# Altium schematic symbol library sch_library.SchLib: 55 symbols (part 2 of 2)
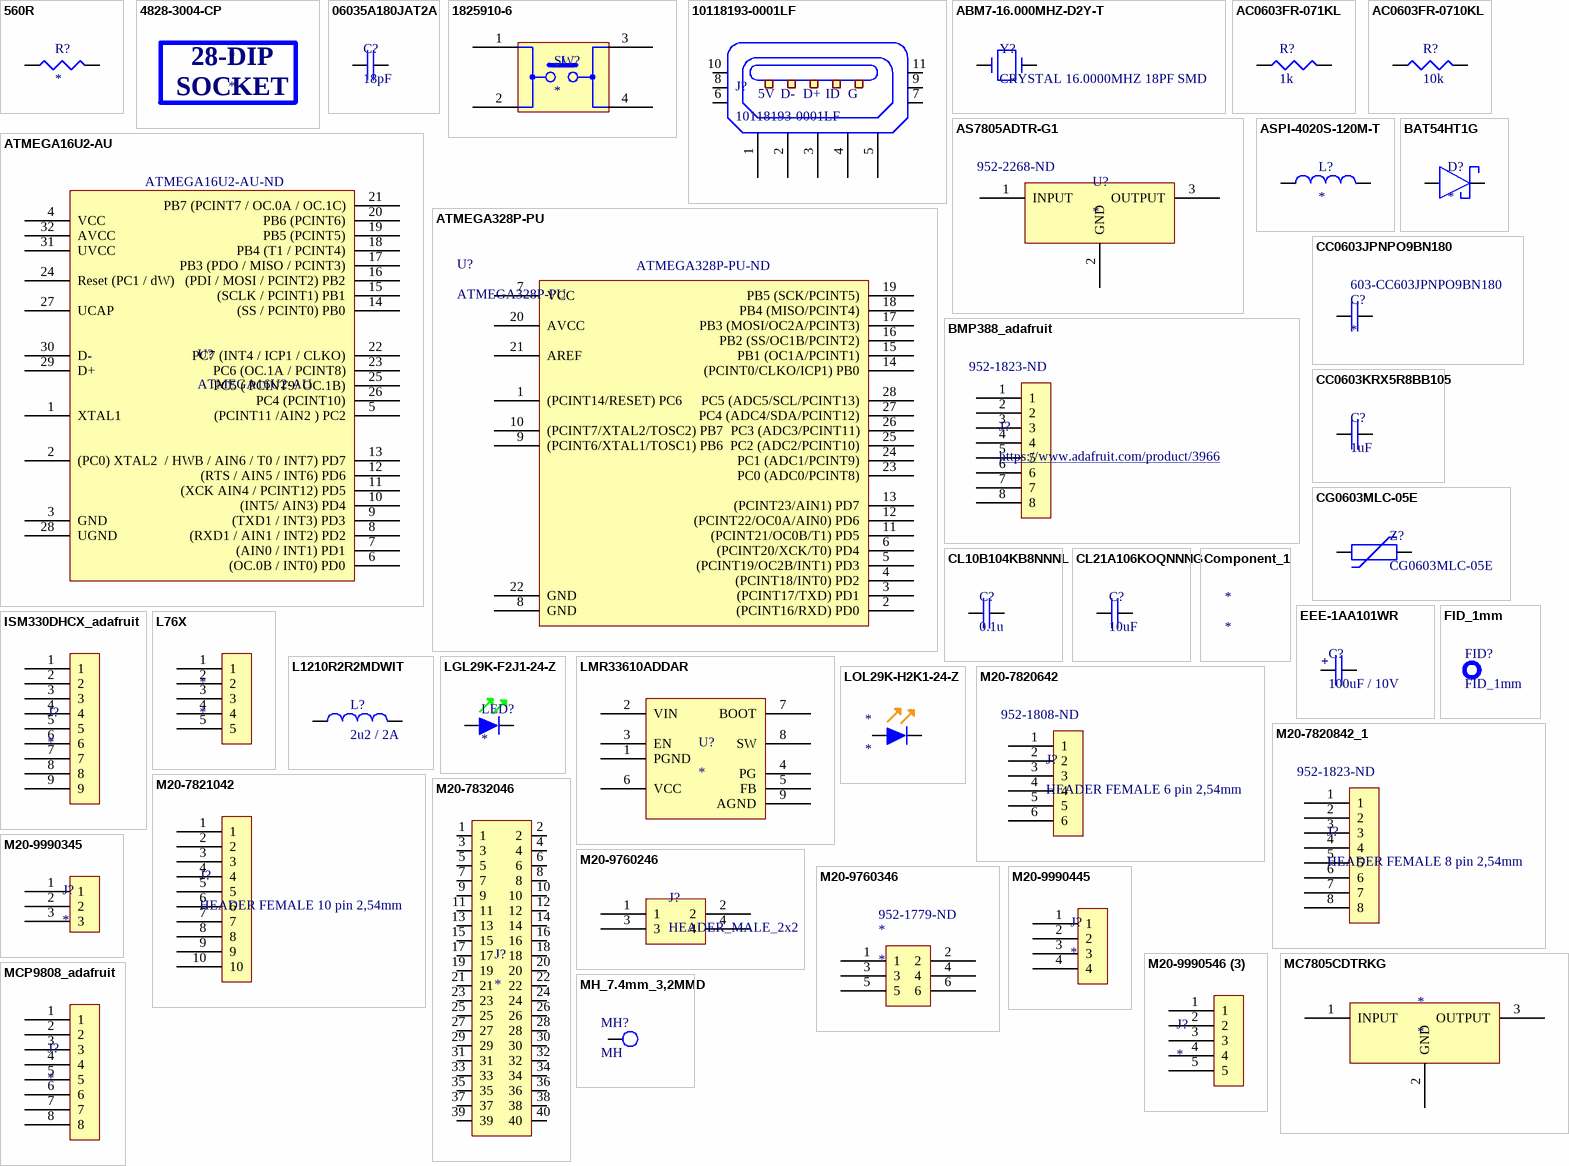
[diagram p2: symbols 560R to MH_7.4mm_3,2MMD]

## LOL29K-H2K1-24-Z
designator *
OSRAM - LO L29K-H2K1-24-Z - SMARTLED 0603 ORANGE; Manufacturer: Osram Opto; Lens Color: White; Forward Current: 20mA; Forward Voltage: 2.2V; Luminous Intensity: 9mcd; Viewing Angle: 160°; Test Current: 2mA; Lens Style: Flat,Diffused,Colorless,Rectangular; Dominant Wavelength: 606nm; Luminous Flux: 0.025lm; Number of Elements: 1; Reverse Voltage: 12V; Lens Transparency: Diffused; Lens Size: 0.8mm; Supplier 1: Digi-Key; Manufacturer Part Number: LOL29K-H2K1-24-Z; RoHS: Yes; Category: Uncategorized; Mount: Surface Mount; Case/Package: 0603; Number of Pins: 2; Color: Orange; Case Code (Metric): 1608; Case Code (Imperial): 0603; Min Operating Temperature: -40°C; Max Operating Temperature: 100°C; Packaging: Tape and Reel; Number of LEDs: 1; Illumination Color: Orange; Package Quantity: 5000; Length: 1.3mm; Width: 0.8mm; Height: 0.65mm; Depth: 0.8mm; Radiation Hardening: No; ComponentLink1URL: https://datasheet.ciiva.com/2112/00077105-0-2112904.pdf?src-supplier=Digi-Key; ComponentLink1Description: https://datasheet.ciiva.com/2112/00077105-0-2112904.pdf?src-supplier=Digi-Key; ComponentLink2URL: https://datasheet.ciiva.com/2112/00077105-0-2112905.pdf?src-supplier=Digi-Key; ComponentLink2Description: https://datasheet.ciiva.com/2112/00077105-0-2112905.pdf?src-supplier=Digi-Key; ComponentLink3URL: https://datasheet.ciiva.com/2112/00077105-0-2112906.pdf?src-supplier=Digi-Key; ComponentLink3Description: https://datasheet.ciiva.com/2112/00077105-0-2112906.pdf?src-supplier=Digi-Key; ComponentLink4URL: https://datasheet.ciiva.com/15198/getdatasheetpartid-693885-15198412.pdf?src-supplier=Verical; ComponentLink4Description: https://datasheet.ciiva.com/15198/getdatasheetpartid-693885-15198412.pdf?src-supplier=Verical; Supplier Part Number 1: 475-2740-2-ND
footprint LED_0603
pins: 1, 2

## M20-7820642
designator J?, comment HEADER FEMALE 6 pin 2,54mm  Supplier Part Number 1: 952-1808-ND
Conn Socket Strip SKT 6 POS 2.54mm Solder ST Thru-Hole Tube; Manufacturer: Harwin; Manufacturer Part Number: M20-7820642; Number of Contacts: 6; Max Current Rating: 3A; Contact Resistance: 20mR; Connector Type: Receptacle,Socket; Supplier 1: Digi-Key; RoHS: Yes; Category: Headers and Wire Housings; Stock 1: 1395; Pricing 1: 1=1.04000, 10=0.91300, 100=0.78760, 500=0.64440, 1000=0.57280, 5000=0.50120, 10000=0.47614 (USD); Mount: Through Hole; Case/Package: SIL; Contact Plating: Gold,Tin; Color: Black; Contact Material: Bronze; Weight: 0.019048oz; Housing Color: Black; Housing Material: Nylon; Min Operating Temperature: -40°C; Max Operating Temperature: 105°C; Number of Rows: 1; Termination: Solder; Gender: Female; Contact Gender: Female; Package Quantity: 38; Packaging: Rail/Tube; Orientation: Straight; Number of Positions: 6; Length: 15.64mm; Pitch: 2.54mm; Depth: 2.5mm; ComponentLink1URL: http://www.mouser.com/ds/2/181/Harwin_Product_Catalog_page_197-1134272.pdf?src-supplier=Mouser; ComponentLink1Description: http://www.mouser.com/ds/2/181/Harwin_Product_Catalog_page_197-1134272.pdf?src-supplier=Mouser; ComponentLink2URL: http://components.arrow.com/part/dataview/0323_00725895?src-supplier=Arrow+Europe; ComponentLink2Description: http://components.arrow.com/part/dataview/0323_00725895?src-supplier=Arrow+Europe; ComponentLink3URL: https://cdn.harwin.com/pdfs/M20-782.pdf?src-supplier=Digi-Key; ComponentLink3Description: https://cdn.harwin.com/pdfs/M20-782.pdf?src-supplier=Digi-Key; ComponentLink4URL: http://www.harwin.com/include/downloads/pdfs/60PAGE140.PDF?src-supplier=Avnet; ComponentLink4Description: http://www.harwin.com/include/downloads/pdfs/60PAGE140.PDF?src-supplier=Avnet
footprint HEADER_FEMALE_6PIN_2.54mm
pins: 1, 2, 3, 4, 5, 6

## M20-7820842_1
designator J?, comment HEADER FEMALE 8 pin 2,54mm  Supplier Part Number 1: 952-1823-ND
2.54mm (0.1") Pitch SIL Vertical PC Tail Socket Assembly, selective gold + tin, 8 contacts; Manufacturer: Harwin; Manufacturer Part Number: M20-7820842; Number of Contacts: 8; Connector Type: Receptacle,Socket; Max Current Rating: 3A; Contact Resistance: 20mR; Supplier 1: Digi-Key; RoHS: Yes; Category: Headers and Wire Housings; Stock 1: 384; Pricing 1: 1=1.17000, 10=1.03000, 100=0.88880, 500=0.72720, 1000=0.64640, 5000=0.56560, 10000=0.53732 (USD); Mount: Through Hole; Case/Package: SIL; Contact Plating: Tin,Gold; Weight: 0.025397oz; Housing Color: Black; Color: Black; Contact Material: Bronze; Housing Material: Polyamide; Min Operating Temperature: -40°C; Max Operating Temperature: 105°C; Termination: Solder; Number of Rows: 1; Orientation: Straight; Number of Positions: 8; Gender: Female; Contact Gender: Female; Package Quantity: 29; Packaging: Rail/Tube; Length: 20.72mm; Pitch: 2.54mm; Depth: 2.5mm; Radiation Hardening: No; ComponentLink1URL: https://datasheet.ciiva.com/16732/m20-782-16732663.pdf?src-supplier=Avnet+Europe; ComponentLink1Description: https://datasheet.ciiva.com/16732/m20-782-16732663.pdf?src-supplier=Avnet+Europe; ComponentLink2URL: https://datasheet.ciiva.com/9480/m20-782-9480074.pdf?src-supplier=Avnet; ComponentLink2Description: https://datasheet.ciiva.com/9480/m20-782-9480074.pdf?src-supplier=Avnet
footprint HEADER_FEMALE_8PIN_2.54mm
pins: 1, 2, 3, 4, 5, 6, 7, 8

## M20-7821042
designator J?, comment HEADER FEMALE 10 pin 2,54mm
Headers & Wire Housings 10 PIN SIL VERTICAL SOCKET GOLD+TIN; Manufacturer: Harwin; Manufacturer Part Number: M20-7821042; Number of Contacts: 4; Number of Positions: 10; Connector Type: Receptacle,Socket; Pitch: 2.54mm; Supplier 1: Mouser; RoHS: Yes; Category: Headers and Wire Housings; Stock 1: 4200; Mount: Through Hole; Case/Package: SIL; Contact Plating: Tin,Gold; Color: Black; Number of Rows: 1; Termination: Solder; Gender: Female; Contact Gender: Female; Package Quantity: 23; Packaging: Rail/Tube; Radiation Hardening: No; ComponentLink1URL: https://datasheet.ciiva.com/9480/m20-782-9480090.pdf?src-supplier=Avnet; ComponentLink1Description: https://datasheet.ciiva.com/9480/m20-782-9480090.pdf?src-supplier=Avnet; ComponentLink2URL: https://datasheet.ciiva.com/6784/m20-782-6784540.pdf?src-supplier=Digi-Key; ComponentLink2Description: https://datasheet.ciiva.com/6784/m20-782-6784540.pdf?src-supplier=Digi-Key; Supplier Part Number 1: 855-M20-7821042
footprint HEADER_FEMALE_10PIN_2.54mm
pins: 1, 2, 3, 4, 5, 6, 7, 8, 9, 10

## M20-7832046
designator J?
Conn Socket Strip SKT 40 POS 2.54mm Solder ST Thru-Hole Tube; Manufacturer: Harwin; Manufacturer Part Number: M20-7832046; Number of Contacts: 40; Gender: Receptacle; Current Rating: 3A; Contact Resistance: 20mR; Mating Cycles: 50; Connector Type: Receptacle,Socket; Insulation Resistance: 1MR; Hole Diameter: 0.8mm; Row Spacing: 0.1inch; Supplier 1: Digi-Key; RoHS: Yes; Category: Headers and Wire Housings; Stock 1: 10129; Pricing 1: 1=3.23000, 10=3.10100, 100=2.58400, 500=2.19640, 1000=1.87340, 5000=1.67960 (USD); Mount: Through Hole; Housing Color: Black; Housing Material: Polyamide; Contact Plating: Tin; Contact Material: Bronze; Color: Black; Material: Glass,Polyester; Min Operating Temperature: -40°C; Max Operating Temperature: 105°C; Number of Rows: 2; Termination: Solder; Orientation: Straight; Packaging: Rail/Tube; Max Current Rating: 3A; Contact Gender: Female; Package Quantity: 11; Number of Positions: 40; Length: 51.2mm; Pitch: 2.54mm; Lead Pitch: 2.54mm; Depth: 5.04mm; Radiation Hardening: No; REACH SVHC: No SVHC; ComponentLink1URL: https://datasheet.ciiva.com/11748/0900766b80dc1d2a-11748805.pdf?src-supplier=RSComponents; ComponentLink1Description: https://datasheet.ciiva.com/11748/0900766b80dc1d2a-11748805.pdf?src-supplier=RSComponents; ComponentLink2URL: https://datasheet.ciiva.com/26852/getdatasheetpartid-499542-26852174.pdf?src-supplier=Verical; ComponentLink2Description: https://datasheet.ciiva.com/26852/getdatasheetpartid-499542-26852174.pdf?src-supplier=Verical; ComponentLink3URL: https://datasheet.ciiva.com/9479/m20-783-9479864.pdf?src-supplier=Avnet; ComponentLink3Description: https://datasheet.ciiva.com/9479/m20-783-9479864.pdf?src-supplier=Avnet; ComponentLink4URL: https://datasheet.ciiva.com/7639/1836950-7639737.pdf?src-supplier=Element14; ComponentLink4Description: https://datasheet.ciiva.com/7639/1836950-7639737.pdf?src-supplier=Element14; ComponentLink5URL: https://datasheet.ciiva.com/6795/m20-783-6795342.pdf?src-supplier=Digi-Key; ComponentLink5Description: https://datasheet.ciiva.com/6795/m20-783-6795342.pdf?src-supplier=Digi-Key; Supplier Part Number 1: 952-2150-ND
footprint HEADER_FEMALE_2X20
pins: 1, 2, 3, 4, 5, 6, 7, 8, 9, 10, 11, 12, 13, 14, 15, 16, 17, 18, 19, 20, 21, 22, 23, 24, 25, 26, 27, 28, 29, 30, 31, 32, 33, 34, 35, 36, 37, 38, 39, 40

## M20-9760246
designator J?, comment HEADER_MALE_2x2
02+02 DIL Vert Pin Hdr; Manufacturer: Harwin; Manufacturer Part Number: M20-9760246; Number of Positions: 4; Max Current Rating: 3A; Contact Resistance: 30mR; Voltage Rating: 750V; Connector Type: Male Pin; Pitch: 2.54mm; Row Spacing: 0.1inch; Supplier 1: Digi-Key; RoHS: Yes; Category: Headers and Wire Housings; Stock 1: 10352; Pricing 1: 1=0.16000, 10=0.15400, 100=0.10660, 500=0.09020, 1000=0.07380, 5000=0.06560, 10000=0.05945 (USD); Mount: Through Hole; Color: Black; Contact Plating: Tin; Contact Material: Brass; Housing Material: Nylon; Housing Color: Black; Min Operating Temperature: -40°C; Max Operating Temperature: 105°C; Termination: Solder; Package Quantity: 1000; Number of Rows: 2; Packaging: Bulk; Current Rating: 3A; Orientation: Straight; Length: 5.08mm; Contact Mating Length: 0.228inch; Depth: 5.08mm; ComponentLink1URL: http://components.arrow.com/part/dataview/0323_00724419?src-supplier=Arrow+Europe; ComponentLink1Description: http://components.arrow.com/part/dataview/0323_00724419?src-supplier=Arrow+Europe; ComponentLink2URL: http://www.mouser.com/ds/2/181/Harwin_Product_Catalog_page_207-1131241.pdf?src-supplier=Mouser; ComponentLink2Description: http://www.mouser.com/ds/2/181/Harwin_Product_Catalog_page_207-1131241.pdf?src-supplier=Mouser; ComponentLink3URL: https://cdn.harwin.com/pdfs/Harwin_PC_Connectors_M20.pdf?src-supplier=Digi-Key; ComponentLink3Description: https://cdn.harwin.com/pdfs/Harwin_PC_Connectors_M20.pdf?src-supplier=Digi-Key; Supplier Part Number 1: 952-1772-ND
footprint HEADER_MALE_2x2PIN
pins: 1, 2, 3, 4

## M20-9760346
designator *  Supplier Part Number 1: 952-1779-ND
03+03 DIL VERT PIN HDR; Manufacturer: Harwin; Manufacturer Part Number: M20-9760346; Current Rating: 3A; Voltage Rating: 750V; Connector Type: Male Pin; Contact Resistance: 30mR; Number of Positions: 6; Pitch: 2.54mm; Row Spacing: 0.1inch; Supplier 1: Digi-Key; RoHS: Yes; Category: Headers and Wire Housings; Stock 1: 4331; Pricing 1: 1=0.25000, 10=0.23300, 100=0.16120, 500=0.13640, 1000=0.11160, 5000=0.09920, 10000=0.08990 (USD); Mount: Through Hole; Housing Color: Black; Color: Black; Contact Plating: Tin; Housing Material: Nylon; Contact Material: Brass; Min Operating Temperature: -40°C; Max Operating Temperature: 105°C; Orientation: Straight; Package Quantity: 1000; Number of Rows: 2; Packaging: Bulk; Max Current Rating: 3A; Termination: Solder; Length: 7.62mm; Contact Mating Length: 0.228inch; Depth: 5.08mm; ComponentLink1URL: https://datasheet.ciiva.com/6814/m20-976-6814764.pdf?src-supplier=Digi-Key; ComponentLink1Description: https://datasheet.ciiva.com/6814/m20-976-6814764.pdf?src-supplier=Digi-Key
footprint HEADER_MALE_2x3PIN
pins: 1, 2, 3, 4, 5, 6

## M20-9990345
designator J?
HARWIN - M20-9990345 - Board-To-Board Connector, Straight, 2.54 mm, 3 Contacts, Header, M20 Series, Through Hole, 1 Rows; Number of Contacts: 3; Connector Type: Male Pin; Current Rating: 3A; Contact Resistance: 25mR; Voltage Rating (AC): 750V; Insulation Resistance: 10GR; Pitch: 2.54mm; Supplier 1: Digi-Key; Manufacturer: Harwin; Manufacturer Part Number: M20-9990345; RoHS: Yes; Category: Headers and Wire Housings; Stock 1: 68267; Pricing 1: 1=0.19000, 10=0.17400, 100=0.10730, 500=0.08880, 1000=0.07770, 5000=0.06660, 10000=0.06475 (USD); Mount: Through Hole; Case/Package: SIL; Housing Color: Black; Housing Material: Nylon; Contact Plating: Gold; Contact Material: Brass,Bronze; Color: Black; Weight: 0.006138oz; Min Operating Temperature: -40°C; Max Operating Temperature: 105°C; Number of Rows: 1; Termination: Solder; Package Quantity: 1000; Packaging: Bulk; Max Current Rating: 3A; Number of Positions: 3; Orientation: Straight; Length: 7.62mm; Width: 0.25inch; Height: 0.125inch; Contact Mating Length: 0.24inch; Depth: 2.54mm; Radiation Hardening: No; REACH SVHC: No SVHC; ComponentLink1URL: https://datasheet.ciiva.com/11747/0900766b80da602d-11747505.pdf?src-supplier=RSComponents; ComponentLink1Description: https://datasheet.ciiva.com/11747/0900766b80da602d-11747505.pdf?src-supplier=RSComponents; ComponentLink2URL: https://datasheet.ciiva.com/10151/m20-999-10151334.pdf?src-supplier=Avnet; ComponentLink2Description: https://datasheet.ciiva.com/10151/m20-999-10151334.pdf?src-supplier=Avnet; ComponentLink3URL: https://datasheet.ciiva.com/16657/m20-999-16657084.pdf?src-supplier=Avnet+Europe; ComponentLink3Description: https://datasheet.ciiva.com/16657/m20-999-16657084.pdf?src-supplier=Avnet+Europe; ComponentLink4URL: https://datasheet.ciiva.com/5160/m20-999-351179-5160492.pdf?src-supplier=Mouser; ComponentLink4Description: https://datasheet.ciiva.com/5160/m20-999-351179-5160492.pdf?src-supplier=Mouser; Supplier Part Number 1: 952-2263-ND
footprint HEADER_MALE_1x3
pins: 1, 2, 3

## M20-9990445
designator J?
HARWIN - M20-9990445 - Board-To-Board Connector, 2.54 mm, 4 Contacts, Header, M20 Series, Through Hole, 1 Rows; Number of Contacts: 4; Gender: Male; Insulation Resistance: 10GR; Connector Type: Male Pin; Current Rating: 3A; Contact Resistance: 25mR; Pitch: 2.54mm; Supplier 1: Digi-Key; Manufacturer: Harwin; Manufacturer Part Number: M20-9990445; RoHS: Yes; Category: Headers and Wire Housings; Stock 1: 16678; Pricing 1: 1=0.20000, 10=0.19100, 100=0.13260, 500=0.11220, 1000=0.09180, 5000=0.08160, 10000=0.07395 (USD); Mount: Through Hole; Case/Package: SIL; Housing Material: Nylon; Housing Color: Black; Weight: 0.1lb; Contact Material: Bronze,Brass; Contact Plating: Gold; Color: Black; Min Operating Temperature: -40°C; Max Operating Temperature: 105°C; Termination: Solder; Number of Rows: 1; Orientation: Straight; Number of Positions: 4; Max Current Rating: 3A; Packaging: Bulk; Package Quantity: 1000; Length: 10.16mm; Width: 0.5inch; Height: 0.1inch; Contact Mating Length: 0.24inch; Depth: 2.54mm; Radiation Hardening: No; REACH SVHC: No SVHC; ComponentLink1URL: https://datasheet.ciiva.com/11747/0900766b80da602d-11747748.pdf?src-supplier=RSComponents; ComponentLink1Description: https://datasheet.ciiva.com/11747/0900766b80da602d-11747748.pdf?src-supplier=RSComponents; ComponentLink2URL: https://datasheet.ciiva.com/16657/m20-999-16657086.pdf?src-supplier=Avnet+Europe; ComponentLink2Description: https://datasheet.ciiva.com/16657/m20-999-16657086.pdf?src-supplier=Avnet+Europe; ComponentLink3URL: https://datasheet.ciiva.com/26899/getdatasheetpartid-384172-26899445.pdf?src-supplier=Verical; ComponentLink3Description: https://datasheet.ciiva.com/26899/getdatasheetpartid-384172-26899445.pdf?src-supplier=Verical; ComponentLink4URL: https://datasheet.ciiva.com/8046/315376-8046934.pdf?src-supplier=Element14; ComponentLink4Description: https://datasheet.ciiva.com/8046/315376-8046934.pdf?src-supplier=Element14; ComponentLink5URL: https://datasheet.ciiva.com/5159/m20-999-351179-5159769.pdf?src-supplier=Mouser; ComponentLink5Description: https://datasheet.ciiva.com/5159/m20-999-351179-5159769.pdf?src-supplier=Mouser; ComponentLink6URL: https://datasheet.ciiva.com/6833/m20-999-6833324.pdf?src-supplier=Digi-Key; ComponentLink6Description: https://datasheet.ciiva.com/6833/m20-999-6833324.pdf?src-supplier=Digi-Key; ComponentLink7URL: https://datasheet.ciiva.com/9480/m20-999-9480237.pdf?src-supplier=Avnet; ComponentLink7Description: https://datasheet.ciiva.com/9480/m20-999-9480237.pdf?src-supplier=Avnet; Supplier Part Number 1: 952-2265-ND
footprint HEADER_MALE_1x4
pins: 1, 2, 3, 4

## M20-9990546 (3)
designator J?
HEADER, 1ROW, 5WAY; Manufacturer: Harwin; Manufacturer Part Number: M20-9990546; Number of Contacts: 5; Connector Type: Male Pin; Gender: Male; Insulation Resistance: 10GR; Max Current Rating: 3A; Contact Resistance: 30mR; Pitch: 2.54mm; Supplier 1: Digi-Key; RoHS: Yes; Category: Headers and Wire Housings; Stock 1: 48472; Pricing 1: 1=0.21000, 10=0.19500, 100=0.13520, 500=0.11440, 1000=0.09360, 5000=0.08320, 10000=0.07540 (USD); Mount: Through Hole; Case/Package: SIL; Housing Material: Nylon; Contact Material: Brass,Bronze; Contact Plating: Tin; Color: Black; Housing Color: Black; Min Operating Temperature: -40°C; Max Operating Temperature: 105°C; Termination: Solder; Number of Rows: 1; Number of Positions: 5; Current Rating: 3A; Package Quantity: 1000; Packaging: Bulk; Orientation: Straight; Length: 12.7mm; Contact Mating Length: 0.24inch; Depth: 2.54mm; REACH SVHC: No SVHC; ComponentLink1URL: https://datasheet.ciiva.com/11749/0900766b80da602d-11749062.pdf?src-supplier=RSComponents; ComponentLink1Description: https://datasheet.ciiva.com/11749/0900766b80da602d-11749062.pdf?src-supplier=RSComponents; ComponentLink2URL: https://datasheet.ciiva.com/8046/315376-8046940.pdf?src-supplier=Element14; ComponentLink2Description: https://datasheet.ciiva.com/8046/315376-8046940.pdf?src-supplier=Element14; ComponentLink3URL: https://datasheet.ciiva.com/6833/m20-999-6833320.pdf?src-supplier=Digi-Key; ComponentLink3Description: https://datasheet.ciiva.com/6833/m20-999-6833320.pdf?src-supplier=Digi-Key; Supplier Part Number 1: 952-2268-ND
footprint HEADER_MALE_1X5
pins: 1, 2, 3, 4, 5

## MC7805CDTRKG
designator *
IC REG LINEAR 5V 1A DPAK; Manufacturer: ON Semiconductor; Manufacturer Part Number: MC7805CDTRKG; Power Supply Rejection Ratio (PSRR): 83dB; Output Type: Fixed; Number of Regulators: 1; Polarity: Positive; Quiescent Current: 3.2mA; Max Output Voltage: 5.2V; Max Input Voltage: 35V; Min Input Voltage: 10V; Dropout Voltage: 2V; Output Voltage Accuracy: 4%; Supplier 1: Digi-Key; RoHS: Yes; Category: Voltage Regulators - Linear; Stock 1: 4852; Pricing 1: 1=0.53000, 10=0.45100, 25=0.42080, 100=0.31250, 250=0.26444, 500=0.25242, 1000=0.18631 (USD); Mount: Surface Mount; Case/Package: DPAK; Number of Pins: 3; Contact Plating: Tin,Matte; Min Operating Temperature: 0°C; Max Operating Temperature: 125°C; Min Output Voltage: 5V; Output Current: 1A; Nominal Output Voltage: 5V; Packaging: Tape and Reel; Package Quantity: 1; Max Output Current: 1A; Number of Outputs: 1; Output Voltage: 5V; Accuracy: 4%; Length: 6.73mm; Width: 6.22mm; Height: 2.38mm; Radiation Hardening: No; REACH SVHC: No SVHC; Lead Free: Lead Free; Halogen Free: Halogen Free; ComponentLink1URL: https://datasheet.ciiva.com/1643/mc7800-d-1643648.pdf?src-supplier=Newark; ComponentLink1Description: https://datasheet.ciiva.com/1643/mc7800-d-1643648.pdf?src-supplier=Newark; ComponentLink2URL: https://datasheet.ciiva.com/2042/mc7800-d-2042320.pdf?src-supplier=Digi-Key; ComponentLink2Description: https://datasheet.ciiva.com/2042/mc7800-d-2042320.pdf?src-supplier=Digi-Key; ComponentLink3URL: https://datasheet.ciiva.com/2042/mc7800-d-2042318.pdf?src-supplier=Digi-Key; ComponentLink3Description: https://datasheet.ciiva.com/2042/mc7800-d-2042318.pdf?src-supplier=Digi-Key; ComponentLink4URL: https://datasheet.ciiva.com/8229/mc7800-d-8229966.pdf?src-supplier=Avnet; ComponentLink4Description: https://datasheet.ciiva.com/8229/mc7800-d-8229966.pdf?src-supplier=Avnet; ComponentLink5URL: https://datasheet.ciiva.com/8234/mc7800-d-8234046.pdf?src-supplier=Avnet; ComponentLink5Description: https://datasheet.ciiva.com/8234/mc7800-d-8234046.pdf?src-supplier=Avnet; ComponentLink6URL: https://datasheet.ciiva.com/2042/mc7800-d-2042319.pdf?src-supplier=Digi-Key; ComponentLink6Description: https://datasheet.ciiva.com/2042/mc7800-d-2042319.pdf?src-supplier=Digi-Key; Supplier Part Number 1: MC7805CDTRKGOSCT-ND
footprint DPAK
pins: 1 INPUT, 2 GND, 3 OUTPUT

## MCP9808_adafruit
designator J?
https://www.adafruit.com/product/1782
footprint MCP9808_adafruit
pins: 1, 2, 3, 4, 5, 6, 7, 8

## MH_7.4mm_3,2MMD
designator MH?, comment MH  (no BOM)
MH_7.4mm_3,2MMD
footprint MH_7.4mm_3,2MMD
pins: 1

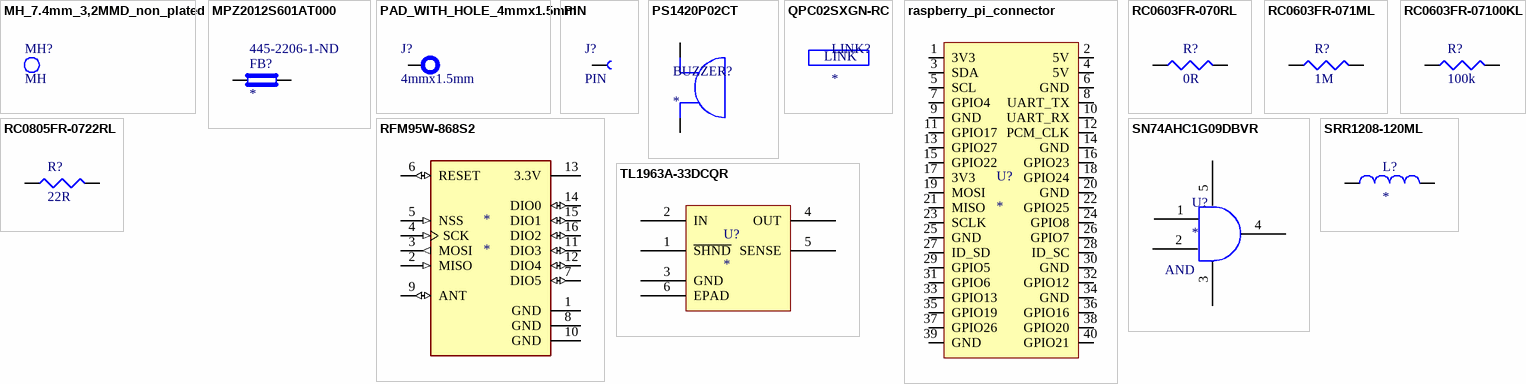
[diagram p1: symbols MH_7.4mm_3,2MMD_non_plated to TL1963A-33DCQR]

## MH_7.4mm_3,2MMD_non_plated
designator MH?, comment MH  (no BOM)
MH_7.4mm_3,2MMD non plated
footprint MH_7.4mm_3,2MMD_nonplated

## MPZ2012S601AT000
designator FB?  Supplier Part Number 1: 445-2206-1-ND
FERRITE BEAD 600 OHM 0805 1LN; Manufacturer: TDK; Manufacturer Part Number: MPZ2012S601AT000; Impedance: 600R; Current Rating: 2A; DC Resistance (DCR): 100mR; Supplier 1: Digi-Key; RoHS: Yes; Category: Ferrite Beads and Chips; Stock 1: 163632; Pricing 1: 1=0.11000, 10=0.09200, 25=0.08240, 50=0.06040, 100=0.05220, 250=0.04116, 500=0.03478, 1000=0.02928 (USD); Mount: Surface Mount; Case/Package: 0805; Case Code (Metric): 2012; Case Code (Imperial): 0805; Packaging: Tape and Reel; Package Quantity: 1; Max DC Current: 2A; Length: 0.079inch; Width: 0.049inch; Height: 0.041inch; REACH SVHC: No SVHC; Lead Free: Lead Free; ComponentLink1URL: https://datasheet.ciiva.com/46634/beads-commercial-power-mpz-en-46634377.pdf?src-supplier=Digi-Key; ComponentLink1Description: https://datasheet.ciiva.com/46634/beads-commercial-power-mpz-en-46634377.pdf?src-supplier=Digi-Key; ComponentLink2URL: https://datasheet.ciiva.com/46634/beads-commercial-power-mpz-en-46634606.pdf?src-supplier=Digi-Key; ComponentLink2Description: https://datasheet.ciiva.com/46634/beads-commercial-power-mpz-en-46634606.pdf?src-supplier=Digi-Key; ComponentLink3URL: https://datasheet.ciiva.com/46634/beads-commercial-power-mpz-en-46634335.pdf?src-supplier=Digi-Key; ComponentLink3Description: https://datasheet.ciiva.com/46634/beads-commercial-power-mpz-en-46634335.pdf?src-supplier=Digi-Key
footprint FB_0805
pins: 1, 2

## PAD_WITH_HOLE_4mmx1.5mm
designator J?, comment 4mmx1.5mm  (no BOM)
footprint PAD_WITH_HOLE_4mmx1.5mm
pins: 1

## PIN
designator J?
footprint PIN
pins: 1

## PS1420P02CT
designator BUZZER?
AUDIO PIEZO TRANSDUCER 30V TH; Manufacturer: TDK; Manufacturer Part Number: PS1420P02CT; Number of Terminals/Pins: 2; Frequency: 2kHz; Max Supply Voltage: 5V; Washable: No; Supplier 1: Digi-Key; RoHS: Yes; Category: Audio Products; Stock 1: 2916; Pricing 1: 1=0.72000, 10=0.61600, 25=0.57600, 50=0.54660, 100=0.51760 (USD); Mount: Through Hole; Case/Package: Radial; Min Operating Temperature: -10°C; Max Operating Temperature: 70°C; Termination: PC Pins; Packaging: Tape and Reel; Package Quantity: 1; Self Resonant Frequency: 2kHz; Voltage Rating (DC): 5V; Diameter: 14mm; Height: 11mm; Lead Free: Lead Free; REACH SVHC: No SVHC; ComponentLink1URL: https://datasheet.ciiva.com/1743/84905-1743655.pdf?src-supplier=Newark; ComponentLink1Description: https://datasheet.ciiva.com/1743/84905-1743655.pdf?src-supplier=Newark; ComponentLink2URL: https://datasheet.ciiva.com/1324/1740412-1324104.pdf?src-supplier=Element14; ComponentLink2Description: https://datasheet.ciiva.com/1324/1740412-1324104.pdf?src-supplier=Element14; ComponentLink3URL: https://datasheet.ciiva.com/4625/ef532-ps-4625338.pdf?src-supplier=Mouser; ComponentLink3Description: https://datasheet.ciiva.com/4625/ef532-ps-4625338.pdf?src-supplier=Mouser; ComponentLink4URL: https://datasheet.ciiva.com/16477/ef532-ps-16477598.pdf?src-supplier=Future+Electronics; ComponentLink4Description: https://datasheet.ciiva.com/16477/ef532-ps-16477598.pdf?src-supplier=Future+Electronics; ComponentLink5URL: https://datasheet.ciiva.com/0/ef532-ps-117.pdf?src-supplier=Digi-Key; ComponentLink5Description: https://datasheet.ciiva.com/0/ef532-ps-117.pdf?src-supplier=Digi-Key; ComponentLink6URL: https://datasheet.ciiva.com/0/ef532-ps-118.pdf?src-supplier=Digi-Key; ComponentLink6Description: https://datasheet.ciiva.com/0/ef532-ps-118.pdf?src-supplier=Digi-Key; ComponentLink7URL: https://datasheet.ciiva.com/8113/ef532-ps-8113417.pdf?src-supplier=Avnet; ComponentLink7Description: https://datasheet.ciiva.com/8113/ef532-ps-8113417.pdf?src-supplier=Avnet; Supplier Part Number 1: 445-2526-1-ND
footprint PS1420P02CT
pins: 1, 2

## QPC02SXGN-RC
designator LINK?  (mechanical)
CONN JUMPER SHORTING .100" GOLD; Manufacturer: Sullins; Manufacturer Part Number: QPC02SXGN-RC; Number of Positions: 2; Pitch: 0.1inch; Supplier 1: Digi-Key; RoHS: Yes; Category: Connectors; Stock 1: 770847; Pricing 1: 1=0.10000, 25=0.04400, 50=0.03780, 250=0.03152, 750=0.02835, 1000=0.02646, 12000=0.02016, 24000=0.01827, 48000=0.01820 (USD); Case/Package: 100; Contact Plating: Gold; Package Quantity: 2000; Packaging: Bulk; Height: 0.235inch; Lead Free: Lead Free; ComponentLink1URL: https://datasheet.ciiva.com/767/284-sxgn-11510-767869.pdf?src-supplier=Digi-Key; ComponentLink1Description: https://datasheet.ciiva.com/767/284-sxgn-11510-767869.pdf?src-supplier=Digi-Key; Supplier Part Number 1: S9337-ND
text: LINK

## raspberry_pi_connector
designator U?
footprint raspberry_pi
pins: 1 3V3, 2 5V, 3 SDA, 4 5V, 5 SCL, 6 GND, 7 GPIO4, 8 UART_TX, 9 GND, 10 UART_RX, 11 GPIO17, 12 PCM_CLK, 13 GPIO27, 14 GND, 15 GPIO22, 16 GPIO23, 17 3V3, 18 GPIO24, 19 MOSI, 20 GND, 21 MISO, 22 GPIO25, 23 SCLK, 24 GPIO8, 25 GND, 26 GPIO7, 27 ID_SD, 28 ID_SC, 29 GPIO5, 30 GND, 31 GPIO6, 32 GPIO12, 33 GPIO13, 34 GND, 35 GPIO19, 36 GPIO16, 37 GPIO26, 38 GPIO20, 39 GND, 40 GPIO21

## RC0603FR-070RL
designator R?, comment 0R
YAGEO - RC0603FR-070RL - RES, THICK FILM, 0R, 1%, 0.1W, 0603; Resistance: 0mR; Power Rating: 100mW; Voltage Rating (DC): 50V; Temperature Coefficient: 200ppm/°C; Current Rating: 1A; Working Voltage: 75V; Supplier 1: Digi-Key; Manufacturer: Yageo; Manufacturer Part Number: RC0603FR-070RL; RoHS: Yes; Category: Chip SMD Resistors; Stock 1: 509264; Pricing 1: 1=0.10000, 10=0.01800, 25=0.01280, 50=0.00980, 100=0.00730, 250=0.00552, 500=0.00442, 1000=0.00326 (USD); Case/Package: 0603; Number of Pins: 2; Contact Plating: Tin,Matte; Case Code (Metric): 1608; Case Code (Imperial): 0603; Min Operating Temperature: -55°C; Max Operating Temperature: 155°C; Resistor Type: Thick Film; Packaging: Tape and Reel; Tolerance: 1%; Package Quantity: 5000; Voltage Rating: 50V; Number of Terminations: 2; Termination: SMD/SMT; Max Power Dissipation: 100mW; Features: Moisture Resistant; Length: 1.6mm; Width: 0.031inch; Height: 0.45mm; Depth: 0.8mm; Radiation Hardening: No; REACH SVHC: No SVHC; Lead Free: Lead Free; Military Standard: Not; ComponentLink1URL: https://datasheet.ciiva.com/11808/0900766b80f96399-11808172.pdf?src-supplier=RSComponents; ComponentLink1Description: https://datasheet.ciiva.com/11808/0900766b80f96399-11808172.pdf?src-supplier=RSComponents; ComponentLink2URL: https://datasheet.ciiva.com/5558/rc0603-272842-5558341.pdf?src-supplier=Mouser; ComponentLink2Description: https://datasheet.ciiva.com/5558/rc0603-272842-5558341.pdf?src-supplier=Mouser; ComponentLink3URL: https://datasheet.ciiva.com/46382/443971-46382072.pdf?src-supplier=Element14; ComponentLink3Description: https://datasheet.ciiva.com/46382/443971-46382072.pdf?src-supplier=Element14; ComponentLink4URL: https://datasheet.ciiva.com/29721/pyu-r-int-thick-7-29721178.pdf?src-supplier=Digi-Key; ComponentLink4Description: https://datasheet.ciiva.com/29721/pyu-r-int-thick-7-29721178.pdf?src-supplier=Digi-Key; ComponentLink5URL: https://datasheet.ciiva.com/5684/443971-5684699.pdf?src-supplier=Farnell; ComponentLink5Description: https://datasheet.ciiva.com/5684/443971-5684699.pdf?src-supplier=Farnell; ComponentLink6URL: https://datasheet.ciiva.com/7983/443971-7983627.pdf?src-supplier=Element14; ComponentLink6Description: https://datasheet.ciiva.com/7983/443971-7983627.pdf?src-supplier=Element14; ComponentLink7URL: https://datasheet.ciiva.com/29721/pyu-rc0603-51-rohs-l-4-29721179.pdf?src-supplier=Digi-Key; ComponentLink7Description: https://datasheet.ciiva.com/29721/pyu-rc0603-51-rohs-l-4-29721179.pdf?src-supplier=Digi-Key; ComponentLink8URL: https://datasheet.ciiva.com/22643/1868787-22643388.pdf?src-supplier=Element14; ComponentLink8Description: https://datasheet.ciiva.com/22643/1868787-22643388.pdf?src-supplier=Element14; Supplier Part Number 1: 311-0.0HRCT-ND
footprint R_0603
pins: 1, 2

## RC0603FR-071ML
designator R?, comment 1M
Yageo RC Series Thick Film Surface Mount Resistor 0603 Case 1M 1% 0.1W 100ppm/C; Manufacturer Part Number: RC0603FR-071ML; Voltage Rating: 50V; Resistance: 1MR; Power Rating: 100mW; Temperature Coefficient: 100ppm/°C; Supplier 1: Digi-Key; Manufacturer: Yageo; RoHS: Yes; Category: Chip SMD Resistors; Stock 1: 6357323; Pricing 1: 1=0.10000, 10=0.02100, 100=0.00840, 1000=0.00379, 2500=0.00329 (USD); Case/Package: 0603; Number of Pins: 2; Case Code (Imperial): 0603; Case Code (Metric): 1608; Min Operating Temperature: -55°C; Max Operating Temperature: 155°C; Voltage Rating (DC): 50V; Tolerance: 1%; Packaging: Tape and Reel; Package Quantity: 5000; Termination: SMD/SMT; Resistor Type: Thick Film; Length: 1.6mm; Width: 0.8mm; Height: 0.45mm; Depth: 0.8mm; REACH SVHC: No SVHC; Military Standard: Not; Lead Free: Lead Free; ComponentLink1URL: https://datasheet.ciiva.com/11819/0900766b80f96399-11819295.pdf?src-supplier=RSComponents; ComponentLink1Description: https://datasheet.ciiva.com/11819/0900766b80f96399-11819295.pdf?src-supplier=RSComponents; ComponentLink2URL: https://datasheet.ciiva.com/7983/443971-7983614.pdf?src-supplier=Element14; ComponentLink2Description: https://datasheet.ciiva.com/7983/443971-7983614.pdf?src-supplier=Element14; ComponentLink3URL: https://datasheet.ciiva.com/12555/rc0603-272842-12555388.pdf?src-supplier=Mouser; ComponentLink3Description: https://datasheet.ciiva.com/12555/rc0603-272842-12555388.pdf?src-supplier=Mouser; Supplier Part Number 1: 311-1.00MHRCT-ND
footprint R_0603
pins: 1, 2

## RC0603FR-07100KL
designator R?, comment 100k
Res Thick Film 1.6 x 0.8 mm 100K Ohm 1% 0.1W(1/10W) 100ppm/ C Molded SMD Paper T/R; Manufacturer: Yageo; Manufacturer Part Number: RC0603FR-07100KL; Resistance: 100kR; Temperature Coefficient: 100ppm/°C; Voltage Rating (DC): 50V; Power Rating: 100mW; Working Voltage: 75V; Supplier 1: Digi-Key; RoHS: Yes; Category: Chip SMD Resistors; Stock 1: 10070605; Pricing 1: 1=0.10000, 10=0.02100, 100=0.00840, 1000=0.00379, 2500=0.00329 (USD); Case/Package: 0603; Number of Pins: 2; Case Code (Imperial): 0603; Case Code (Metric): 1608; Min Operating Temperature: -55°C; Max Operating Temperature: 155°C; Tolerance: 1%; Resistor Type: Thick Film; Packaging: Tape and Reel; Voltage Rating: 50V; Termination: SMD/SMT; Number of Terminations: 2; Length: 1.6mm; Width: 0.8mm; Height: 0.45mm; Depth: 0.8mm; REACH SVHC: No SVHC; Lead Free: Lead Free; Military Standard: Not; ComponentLink1URL: https://datasheet.ciiva.com/11808/0900766b80f96399-11808107.pdf?src-supplier=RSComponents; ComponentLink1Description: https://datasheet.ciiva.com/11808/0900766b80f96399-11808107.pdf?src-supplier=RSComponents; ComponentLink2URL: https://datasheet.ciiva.com/7983/443971-7983593.pdf?src-supplier=Element14; ComponentLink2Description: https://datasheet.ciiva.com/7983/443971-7983593.pdf?src-supplier=Element14; ComponentLink3URL: https://datasheet.ciiva.com/46440/1868787-46440889.pdf?src-supplier=Element14; ComponentLink3Description: https://datasheet.ciiva.com/46440/1868787-46440889.pdf?src-supplier=Element14; ComponentLink4URL: https://datasheet.ciiva.com/7746/1738695-7746234.pdf?src-supplier=Element14; ComponentLink4Description: https://datasheet.ciiva.com/7746/1738695-7746234.pdf?src-supplier=Element14; ComponentLink5URL: https://datasheet.ciiva.com/7746/1738695-7746235.pdf?src-supplier=Element14; ComponentLink5Description: https://datasheet.ciiva.com/7746/1738695-7746235.pdf?src-supplier=Element14; ComponentLink6URL: https://datasheet.ciiva.com/22747/443971-22747516.pdf?src-supplier=Element14; ComponentLink6Description: https://datasheet.ciiva.com/22747/443971-22747516.pdf?src-supplier=Element14; Supplier Part Number 1: 311-100KHRCT-ND
footprint R_0603
pins: 1, 2

## RC0805FR-0722RL
designator R?, comment 22R
RES SMD 22 OHM 1% 1/8W 0805; Manufacturer: Yageo; Manufacturer Part Number: RC0805FR-0722RL; Temperature Coefficient: 100ppm/°C; Max Power Dissipation: 125mW; Working Voltage: 150V; Supplier 1: Digi-Key; RoHS: Yes; Category: Chip SMD Resistors; Stock 1: 411589; Pricing 1: 1=0.10000, 10=0.03600, 100=0.01470, 1000=0.00660, 2500=0.00573 (USD); Case/Package: 0805; Case Code (Metric): 2012; Case Code (Imperial): 0805; Min Operating Temperature: -55°C; Max Operating Temperature: 155°C; Resistor Type: Thick Film; Resistance: 22R; Tolerance: 1%; Packaging: Tape and Reel; Features: Moisture Resistant; Number of Terminations: 2; Termination: SMD/SMT; Power Rating: 125mW; Voltage Rating: 150V; Package Quantity: 1; Length: 0.079inch; Width: 0.049inch; Height: 0.024inch; Depth: 1.25mm; REACH SVHC: Unknown; Lead Free: Lead Free; Military Standard: Not; ComponentLink1URL: https://datasheet.ciiva.com/11819/0900766b8106beab-11819837.pdf?src-supplier=RSComponents; ComponentLink1Description: https://datasheet.ciiva.com/11819/0900766b8106beab-11819837.pdf?src-supplier=RSComponents; ComponentLink2URL: https://datasheet.ciiva.com/2457/pyu-r-int-thick-7-2457044.pdf?src-supplier=Digi-Key; ComponentLink2Description: https://datasheet.ciiva.com/2457/pyu-r-int-thick-7-2457044.pdf?src-supplier=Digi-Key; ComponentLink3URL: https://datasheet.ciiva.com/46447/444164-46447574.pdf?src-supplier=Element14; ComponentLink3Description: https://datasheet.ciiva.com/46447/444164-46447574.pdf?src-supplier=Element14; ComponentLink4URL: https://datasheet.ciiva.com/2457/pyu-r-int-thick-7-2457045.pdf?src-supplier=Digi-Key; ComponentLink4Description: https://datasheet.ciiva.com/2457/pyu-r-int-thick-7-2457045.pdf?src-supplier=Digi-Key; ComponentLink5URL: https://datasheet.ciiva.com/2457/pyu-r-int-thick-7-2457046.pdf?src-supplier=Digi-Key; ComponentLink5Description: https://datasheet.ciiva.com/2457/pyu-r-int-thick-7-2457046.pdf?src-supplier=Digi-Key; ComponentLink6URL: https://datasheet.ciiva.com/12667/rc0805-12667371.pdf?src-supplier=Mouser; ComponentLink6Description: https://datasheet.ciiva.com/12667/rc0805-12667371.pdf?src-supplier=Mouser; Supplier Part Number 1: 311-22.0CRCT-ND
footprint R_0805
pins: 1, 2

## RFM95W-868S2
designator *
RF TXRX MODULE ISM<1GHZ; Manufacturer: RF Solutions; Manufacturer Part Number: RFM95W-868S2; Frequency: 868MHz; Interface: SPI; Data Rate: 300Kbps; Sensitivity: -123dBm; Current - Receiving: 12.1mA; Current - Transmitting: 120mA; Supplier 1: Digi-Key; RoHS: Yes; Category: RF Receivers, Transceivers; Stock 1: 920; Pricing 1: 1=14.44000 (USD); Mount: Surface Mount; Case/Package: SMD/SMT; Min Operating Temperature: -20°C; Max Operating Temperature: 70°C; Packaging: Bulk; ComponentLink1URL: https://www.rfsolutions.co.uk/downloads/1463993415RFM95_96_97_98W.pdf?src-supplier=Digi-Key; ComponentLink1Description: https://www.rfsolutions.co.uk/downloads/1463993415RFM95_96_97_98W.pdf?src-supplier=Digi-Key; Supplier Part Number 1: RFM95W-868S2-ND
footprint RFM69HCW
pins: 1 GND (power), 2 MISO (in), 3 MOSI (out), 4 SCK (in), 5 NSS (in), 6 RESET (io), 7 DIO5 (io), 8 GND (power), 9 ANT (io), 10 GND (power), 11 DIO3 (io), 12 DIO4 (io), 13 3.3V (power), 14 DIO0 (io), 15 DIO1 (io), 16 DIO2 (io)

## SN74AHC1G09DBVR
designator U?
TEXAS INSTRUMENTS - SN74AHC1G09DBVR - AND Gate, 74AHC1G09, 2 Input, 2 V to 5.5 V, SOT-23-5; Min Supply Voltage: 2V; Max Supply Voltage: 5.5V; Quiescent Current: 1uA; Number of Inputs: 2; Propagation Delay: 7.5ns; Output Current: 25mA; Number of Circuits: 1; Low Level Output Current: 8mA; Supplier 1: Digi-Key; Manufacturer: Texas Instruments; Manufacturer Part Number: SN74AHC1G09DBVR; RoHS: Yes; Category: Logic Gates; Stock 1: 15061; Pricing 1: 1=0.32000, 10=0.24000, 25=0.21000, 100=0.13590, 250=0.11252, 500=0.09000, 1000=0.06900 (USD); Mount: Surface Mount; Case/Package: SOT-23; Number of Pins: 5; Contact Plating: Tin,Matte; Min Operating Temperature: -55°C; Max Operating Temperature: 125°C; Logic Function: AND GATE; Package Quantity: 3000; Packaging: Tape and Reel; Number of Gates: 1; Number of Elements: 1; Number of Bits: 1; Output Voltage: 5.5V; Number of Outputs: 1; Radiation Hardening: No; REACH SVHC: No SVHC; Lead Free: Lead Free; ComponentLink1URL: https://datasheet.ciiva.com/1864/sn74ahc1g09-1864410.pdf?src-supplier=Digi-Key; ComponentLink1Description: https://datasheet.ciiva.com/1864/sn74ahc1g09-1864410.pdf?src-supplier=Digi-Key; ComponentLink2URL: https://datasheet.ciiva.com/1864/sn74ahc1g09-1864411.pdf?src-supplier=Digi-Key; ComponentLink2Description: https://datasheet.ciiva.com/1864/sn74ahc1g09-1864411.pdf?src-supplier=Digi-Key; ComponentLink3URL: https://datasheet.ciiva.com/1864/sn74ahc1g09-1864412.pdf?src-supplier=Digi-Key; ComponentLink3Description: https://datasheet.ciiva.com/1864/sn74ahc1g09-1864412.pdf?src-supplier=Digi-Key; Supplier Part Number 1: 296-29202-1-ND
footprint SOT-23
pins: 1, 2, 3, 4, 5
text: AND

## SRR1208-120ML
designator L?
BOURNS - SRR1208-120ML - INDUCTOR, SHIELDED, 12UH, 6.5A, 20%, SMD; Core Material: Ferrite; Material: Steel; Max DC Current: 4.8A; DC Resistance (DCR): 25mR; Test Frequency: 1kHz; Self Resonant Frequency: 11MHz; Q Factor: 19; Supplier 1: Digi-Key; Manufacturer: Bourns; Manufacturer Part Number: SRR1208-120ML; RoHS: Yes; Category: Fixed Inductors; Stock 1: 7103; Pricing 1: 1=0.98000, 10=0.91000, 25=0.84000, 50=0.70000, 100=0.65800 (USD); Mount: Surface Mount; Case/Package: 1208; Min Operating Temperature: -40°C; Max Operating Temperature: 125°C; Inductance: 12uH; Tolerance: 20%; Termination: SMD/SMT; Resistor Type: Wirewound; DC Current: 4.8A; RMS Current (Irms): 4.8A; Packaging: Tape and Reel; Shielding: Shielded; Frequency: 11MHz; Package Quantity: 400; Current Rating: 4.8A; Saturation Current: 6.5A; Inductance Tolerance: 20%; Resistance: 25MR; Length: 12.7mm; Width: 12.7mm; Height: 8.5mm; Height - Seated (Max): 0.335inch; Depth: 13mm; Radiation Hardening: No; Military Standard: Not; REACH SVHC: No SVHC; ComponentLink1URL: https://datasheet.ciiva.com/48685/srr1208-48685191.pdf?src-supplier=Avnet; ComponentLink1Description: https://datasheet.ciiva.com/48685/srr1208-48685191.pdf?src-supplier=Avnet; ComponentLink2URL: https://datasheet.ciiva.com/31835/srr1208-31835720.pdf?src-supplier=Onlinecomponents.com; ComponentLink2Description: https://datasheet.ciiva.com/31835/srr1208-31835720.pdf?src-supplier=Onlinecomponents.com; ComponentLink3URL: https://datasheet.ciiva.com/17284/srr1208-17284986.pdf?src-supplier=Avnet+Europe; ComponentLink3Description: https://datasheet.ciiva.com/17284/srr1208-17284986.pdf?src-supplier=Avnet+Europe; ComponentLink4URL: https://datasheet.ciiva.com/1072/srr1208-1072589.pdf?src-supplier=Digi-Key; ComponentLink4Description: https://datasheet.ciiva.com/1072/srr1208-1072589.pdf?src-supplier=Digi-Key; ComponentLink5URL: https://datasheet.ciiva.com/1072/srr1208-1072590.pdf?src-supplier=Digi-Key; ComponentLink5Description: https://datasheet.ciiva.com/1072/srr1208-1072590.pdf?src-supplier=Digi-Key; ComponentLink6URL: https://datasheet.ciiva.com/1072/srr1208-1072591.pdf?src-supplier=Digi-Key; ComponentLink6Description: https://datasheet.ciiva.com/1072/srr1208-1072591.pdf?src-supplier=Digi-Key; ComponentLink7URL: https://datasheet.ciiva.com/4965/srr1208-37072-4965400.pdf?src-supplier=Mouser; ComponentLink7Description: https://datasheet.ciiva.com/4965/srr1208-37072-4965400.pdf?src-supplier=Mouser; ComponentLink8URL: https://datasheet.ciiva.com/48691/001056588-da-01-en-mag-abge-l-ind-srr1208-120ml-12uh-4-8a-48691766.pdf?src-supplier=Conrad; ComponentLink8Description: https://datasheet.ciiva.com/48691/001056588-da-01-en-mag-abge-l-ind-srr1208-120ml-12uh-4-8a-48691766.pdf?src-supplier=Conrad; Supplier Part Number 1: SRR1208-120MLCT-ND
footprint SRR1208
pins: 1, 2

## TL1963A-33DCQR
designator U?
IC REG LINEAR 3.3V 1.5A SOT223-6; Manufacturer: Texas Instruments; Manufacturer Part Number: TL1963A-33DCQR; Dropout Voltage: 340mV; Number of Outputs: 1; Max Input Voltage: 20V; Min Input Voltage: 2.1V; Min Current Limit: 1.6A; Input Bias Current: 1mA; Polarity: Positive; Accuracy: 3%; Output Type: Fixed; Supplier 1: Digi-Key; RoHS: Yes; Category: Voltage Regulators - Linear; Stock 1: 1750; Pricing 1: 1=2.80000, 10=2.51300, 25=2.37600, 100=1.95360, 250=1.75296, 500=1.68960, 1000=1.40448 (USD); Case/Package: SOT-223; Number of Pins: 6; Contact Plating: Gold; Min Operating Temperature: -40°C; Max Operating Temperature: 125°C; Package Quantity: 1; Packaging: Tape and Reel; Output Voltage: 3.3V; Output Current: 1.5A; Max Output Current: 1.5A; Number of Regulators: 1; Quiescent Current: 1mA; Max Output Voltage: 3.3V; Min Output Voltage: 3.3V; Radiation Hardening: No; Lead Free: Lead Free; ComponentLink1URL: https://datasheet.ciiva.com/2046/tl1963a-2046161.pdf?src-supplier=Digi-Key; ComponentLink1Description: https://datasheet.ciiva.com/2046/tl1963a-2046161.pdf?src-supplier=Digi-Key; ComponentLink2URL: https://datasheet.ciiva.com/2046/tl1963a-2046162.pdf?src-supplier=Digi-Key; ComponentLink2Description: https://datasheet.ciiva.com/2046/tl1963a-2046162.pdf?src-supplier=Digi-Key; ComponentLink3URL: https://datasheet.ciiva.com/2046/tl1963a-2046163.pdf?src-supplier=Digi-Key; ComponentLink3Description: https://datasheet.ciiva.com/2046/tl1963a-2046163.pdf?src-supplier=Digi-Key; ComponentLink4URL: https://datasheet.ciiva.com/26176/tl1963a-25-26176569.pdf?src-supplier=Avnet+Europe; ComponentLink4Description: https://datasheet.ciiva.com/26176/tl1963a-25-26176569.pdf?src-supplier=Avnet+Europe; Supplier Part Number 1: 296-24534-1-ND
footprint DCQ (R-PDSO-G6)
pins: 1 ~{SHND}, 2 IN, 3 GND, 4 OUT, 5 SENSE, 6 EPAD